# Altium footprint library JSB_PcbLib.PcbLib: 5 footprints
Each footprint in its own frame and in the unit in brackets; x right, y up, seen from the top. Pads: shape width x height; smd on the part's side, far side on the other; paste and mask are expansions set on the pad; w line width, h text height; cw(c..) or ccw(c..) is an arc to the next point about the centre after c.
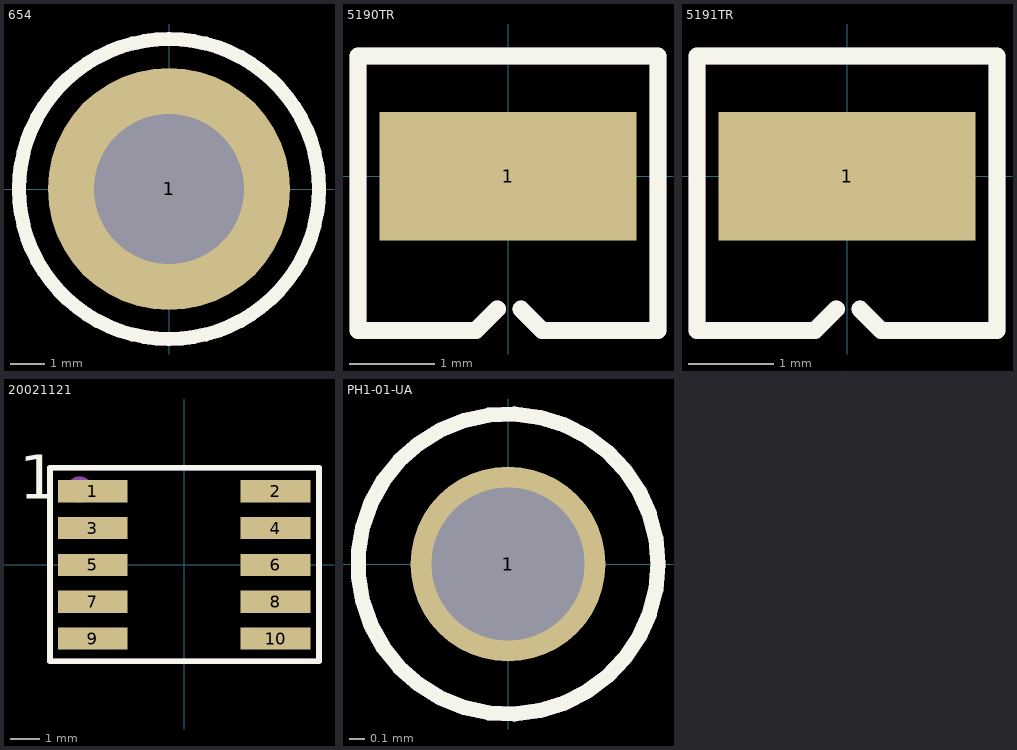
[diagram p0: the footprints below, top view; thin cyan lines are the x and y axes]

## 654 [mm]
pads (1):
  round 7.05 hole 4.35: 1(0,0)
Top Overlay:
  circle w0.4: c0,0 r4.363
Bottom Overlay:
  circle w0.4: c0,0 r4.363
Top Assembly:
  circle w0.4: c0,0 r4.363
  text ".Designator" at -3.499,-0.233 h0.7
Bottom Assembly:
  circle w0.4: c0,0 r4.363
3D body "654--3DModel-STEP-630548.STEP": height 20.09, standoff -4.76, extent -2.812,-3.247 2.725,3.147

## 5190TR [mm] "RED SMD Test Point"
pads (1):
  rect 3x1.5 smd: 1(0,0)
Top Overlay:
  lines w0.2: -0.125,-1.55 -0.375,-1.8 -0.425,-1.8 ; 0.15,-1.55 0.4,-1.8 1.75,-1.8 1.75,1.4 -1.75,1.4 -1.75,-1.8 -0.425,-1.8 ; -0.425,-1.8 -0.425,-1.8
Top Assembly:
  lines w0.2: -0.125,-1.55 -0.375,-1.8 -0.425,-1.8 ; 0.15,-1.55 0.4,-1.8 1.75,-1.8 1.75,1.4 -1.75,1.4 -1.75,-1.8 -0.425,-1.8 ; -0.425,-1.8 -0.425,-1.8
  text ".Designator" at -3.499,-0.233 h0.7
3D body "5190TR.step": height 2.51, standoff 0.01, extent -1.25,-1.475 1.25,1.525

## 5191TR [mm] "Black SMD Test Point"
pads (1):
  rect 3x1.5 smd: 1(0,0)
Top Overlay:
  lines w0.2: -0.125,-1.55 -0.375,-1.8 -0.425,-1.8 ; 0.15,-1.55 0.4,-1.8 1.75,-1.8 1.75,1.4 -1.75,1.4 -1.75,-1.8 -0.425,-1.8 ; -0.425,-1.8 -0.425,-1.8
Top Assembly:
  lines w0.2: -0.125,-1.55 -0.375,-1.8 -0.425,-1.8 ; 0.15,-1.55 0.4,-1.8 1.75,-1.8 1.75,1.4 -1.75,1.4 -1.75,-1.8 -0.425,-1.8 ; -0.425,-1.8 -0.425,-1.8
  text ".Designator" at -3.499,-0.233 h0.7
3D body "5191TR.step": height 2.51, standoff 0.01, extent -1.25,-1.5 1.25,1.5

## 20021121 [mm] "10 Pin header"
pads (10):
  rect 2.4x0.76 smd: 1(-3.15,2.54) 2(3.15,2.54) 3(-3.15,1.27) 4(3.15,1.27) 5(-3.15,0) 6(3.15,0) 7(-3.15,-1.27) 8(3.15,-1.27) 9(-3.15,-2.54) 10(3.15,-2.54)
Top Overlay:
  lines w0.2: -4.625,-3.325 4.65,-3.325 4.65,3.35 -4.625,3.35 -4.625,-3.325
  text "1" at -5.696,2.279 h1.52
Top Assembly:
  circle w0.5: c-3.6,2.6 r0.2
  lines w0.2: -4.625,-3.325 4.65,-3.325 4.65,3.35 -4.625,3.35 -4.625,-3.325
  text ".Designator" at -3.499,-0.233 h0.7
3D body "20021121-00010C4LF--3DModel-STEP-56544.STEP": height 4.56, standoff 0.01, extent -2.775,-3.175 2.725,3.175

## PH1-01-UA [mm]
pads (1):
  round 1.3 hole 1.02: 1(0,0)
Top Overlay:
  circle w0.1: c0,0 r1
Top Assembly:
  circle w0.1: c0,0 r1
  text ".Designator" at -3.499,-0.233 h0.7
3D body "PH1-01-UA.STEP": height 8.51, standoff -3.04, extent -1.25,-1.27 1.25,1.277